# Altium schematic symbol library ArduinoMEGA.SchLib: 1 symbol
Pins are listed as number, name and electrical type; pins without a type are passive.

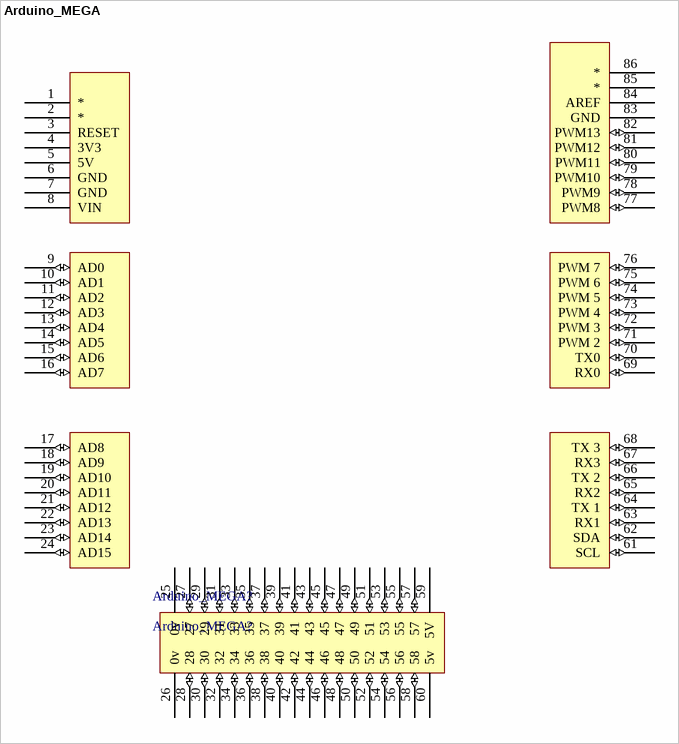
[diagram p0: symbol Arduino_MEGA]

## Arduino_MEGA
designator Arduino_MEGA?, comment Arduino_MEGA?
footprint ArduinoMEGA_ALL
pins: 1 * "RESET", 2 * "RESET", 3 RESET, 4 3V3 (power), 5 5V (power), 6 GND (power), 7 GND (power), 8 VIN (power), 9 AD0 (io), 10 AD1 (io), 11 AD2 (io), 12 AD3 (io), 13 AD4 (io), 14 AD5 (io), 15 AD6 (io), 16 AD7 (io), 17 AD8 (io), 18 AD9 (io), 19 AD10 (io), 20 AD11 (io), 21 AD12 (io), 22 AD13 (io), 23 AD14 (io), 24 AD15 (io), 25 0v (power), 26 0v (power), 27 (io) "0v", 28 (io) "0v", 29 (io) "0v", 30 (io) "0v", 31 (io) "0v", 32 (io) "0v", 33 (io) "0v", 34 (io) "0v", 35 (io) "0v", 36 (io) "0v", 37 (io) "0v", 38 (io) "0v", 39 (io) "0v", 40 (io) "0v", 41 (io) "0v", 42 (io) "0v", 43 (io) "0v", 44 (io) "0v", 45 (io) "0v", 46 (io) "0v", 47 (io) "0v", 48 (io) "0v", 49 (io) "0v", 50 (io) "0v", 51 (io) "0v", 52 (io) "0v", 53 (io) "0v", 54 (io) "0v", 55 (io) "0v", 56 (io) "0v", 57 (io) "0v", 58 (io) "0v", 59 5V (power) "5v", 60 5v (power), 61 SCL (io), 62 SDA (io), 63 RX1 (io), 64 TX 1 (io), 65 RX2 (io), 66 TX 2 (io), 67 RX3 (io), 68 TX 3 (io), 69 RX0 (io) "PWM 0 & RX0", 70 TX0 (io) "PWM 1 & TX0", 71 PWM 2 (io), 72 PWM 3 (io), 73 PWM 4 (io), 74 PWM 5 (io), 75 PWM 6 (io), 76 PWM 7 (io), 77 PWM8 (io) "PWM 8", 78 PWM9 (io) "PWM 9", 79 PWM10 (io) "PWM 10", 80 PWM11 (io) "PWM 11", 81 PWM12 (io) "PWM 12", 82 PWM13 (io) "PWM 13", 83 GND (power), 84 AREF, 85 * "RESET", 86 * "RESET"